# EAGLE library part TINYRTC (library RTC)
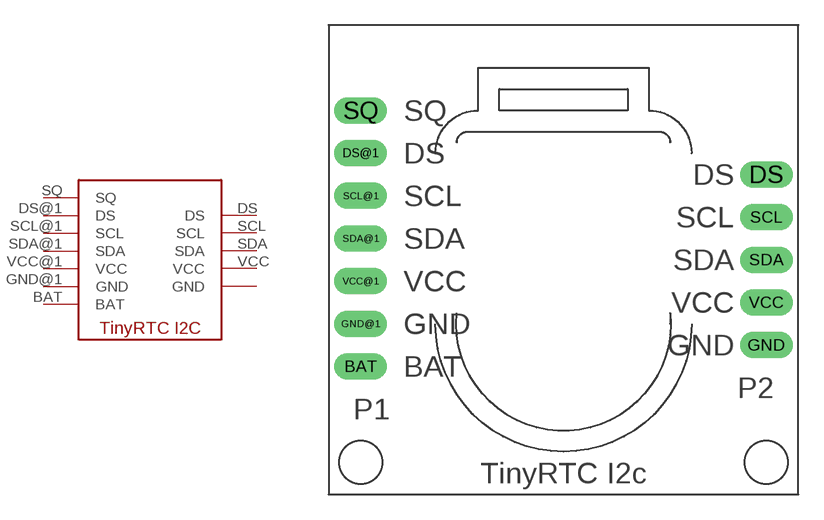
[diagram p0: symbol with the pads of TINYRTC; footprint TINYRTC]

Designator prefix T

## TINYRTC  [TINYRTC]
BAT  BAT  nc
DS  DS  out
DS@1  DS  nc
GND  GND  pwr
GND@1  GND  nc
SCL  SCL
SCL@1  SCL  nc
SDA  SDA
SDA@1  SDA  nc
SQ  SQ  nc
VCC  VCC  pwr
VCC@1  VCC  nc

## Footprint TINYRTC (pad centres in mm)
drill 1 pad 1.575 long: BAT 1.905,7.62; DS 26.035,19.05; DS@1 1.905,20.32; GND 26.035,8.89; GND@1 1.905,10.16; SCL 26.035,16.51; SCL@1 1.905,17.78; SDA 26.035,13.97; SDA@1 1.905,15.24; SQ 1.905,22.86; VCC 26.035,11.43; VCC@1 1.905,12.7